# Altium schematic symbol library BMP390.SchLib: 1 symbol
Pins are listed as number, name and electrical type; pins without a type are passive.

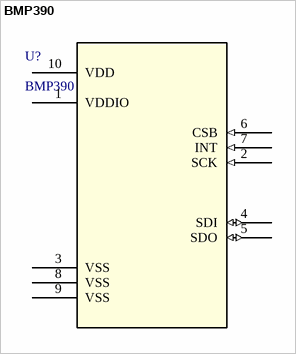
[diagram p0: symbol BMP390]

## BMP390
designator U?
Description; Manufacturer_Name: Bosch Sensortec; Copyright: Copyright (C) 2025 Ultra Librarian. All rights reserved.; Manufacturer_Part_Number: BMP390; RefDes: RefDes; Type: Type
footprint 10LGA_2X2X0p75_BOS
pins: 1 VDDIO (power), 2 SCK (in), 3 VSS (power), 4 SDI (io), 5 SDO (io), 6 CSB (in), 7 INT (in), 8 VSS (power), 9 VSS (power), 10 VDD (power)